# EAGLE library part TPS79301 (library IC)
Texas Instruments TPS79301 adjustable, LDO, UltraLowNoise 200mA regulator in a SOT23-6
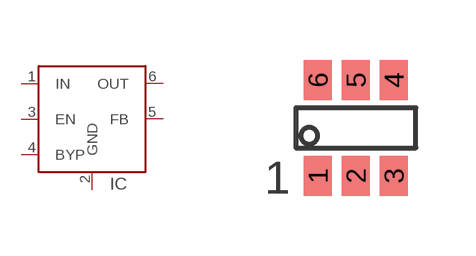
[diagram p73: symbol with the pads of SOT23-6; footprint SOT23-6]

Designator prefix IC

## TPS79301  [SOT23-6]
1  IN  pwr
2  GND  pwr
3  EN
4  BYP
5  FB  pwr
6  OUT  pwr

## Footprint SOT23-6 (pad centres in mm)
smd 0.7 x 1: 1 -0.95,-1.2; 2 0,-1.2; 3 0.95,-1.2; 4 0.95,1.2; 5 0,1.2; 6 -0.95,1.2